# EAGLE library part TRANS_NPN_DUAL (library SparkFun-DiscreteSemi)
Dual NPN Transistors in Single Package The MBT3904W1 puts two general purpose 3904 NPN transistors in a single package. Datasheet <http://www.onsemi.com/pub_link/Collateral/MBT3904DW1T1-D.PDF> SparkFun Products: SparkFun ESP32 Thing <https://www.sparkfun.com/products/13907>
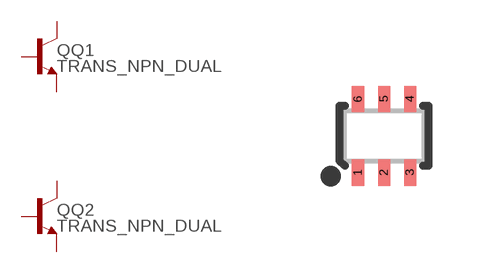
[diagram p0: symbol with the pads of SC70-6; footprint SC70-6]

Designator prefix Q; gates Q1=NPN Q2=NPN

## TRANS_NPN_DUAL-MBT3904DW1T1 (PROD_ID: TRANS-13337)  [SC70-6]
1  Q2:E  pas
2  Q2:B  pas
3  Q1:C  pas
4  Q1:E  pas
5  Q1:B  pas
6  Q2:C  pas

## Footprint SC70-6 (pad centres in mm)
SC-88/SC70-6/SOT-363 6-pin Package Example Datasheet <http://www.onsemi.com/pub_link/Collateral/MBT3904DW1T1-D.PDF>
smd 0.3 x 0.66: 1 -0.65,-0.92; 2 0,-0.92; 3 0.65,-0.92; 4 0.65,0.92; 5 0,0.92; 6 -0.65,0.92